# Altium schematic symbol library Schlib1.SchLib: 1 symbol
Pins are listed as number, name and electrical type; pins without a type are passive.

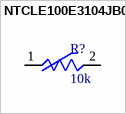
[diagram p0: symbol NTCLE100E3104JB0]

## NTCLE100E3104JB0
designator R?, comment 10k
Thermistor NTC 100K Ohm 5% 2-Pin Radial 4190K -5 to -4.5 Bulk; Manufacturer: Vishay BCcomponents; Manufacturer Part Number: NTCLE100E3104JB0; Resistance: 100kR; Max Power Dissipation: 500mW; Accuracy: 1.5%; Lead Diameter: 0.6mm; Lead Length: 17mm; Supplier 1: Mouser; RoHS: Yes; Category: Thermistors; Stock 1: 20929; Pricing 1: 1=0,89000, 10=0,73400, 50=0,73400, 100=0,45600, 1000=0,34600, 10000=0,28400 (USD); Mount: Through Hole; Case/Package: Radial; Number of Pins: 2; Min Operating Temperature: -40°C; Max Operating Temperature: 125°C; Tolerance: 5%; Packaging: Bulk; Package Quantity: 500; Termination: Radial; Series: 2322; Resistance Tolerance: 5%; Length: 3.3mm; Height: 9mm; Depth: 3mm; Lead Pitch: 2.54mm; Radiation Hardening: No; RoHS Compliant: Yes; Lead Free: Lead Free; ComponentLink1URL: https://datasheet.ciiva.com/15097/getdatasheetpartid-129697-15097699.pdf?src-supplier=Verical; ComponentLink1Description: https://datasheet.ciiva.com/15097/getdatasheetpartid-129697-15097699.pdf?src-supplier=Verical; ComponentLink2URL: https://datasheet.ciiva.com/7659/1784420-7659488.pdf?src-supplier=Element14; ComponentLink2Description: https://datasheet.ciiva.com/7659/1784420-7659488.pdf?src-supplier=Element14; ComponentLink3URL: https://datasheet.ciiva.com/2851/ntcle100-2851268.pdf?src-supplier=Digi-Key; ComponentLink3Description: https://datasheet.ciiva.com/2851/ntcle100-2851268.pdf?src-supplier=Digi-Key; ComponentLink4URL: https://datasheet.ciiva.com/2848/ntcle100-2848931.pdf?src-supplier=Digi-Key; ComponentLink4Description: https://datasheet.ciiva.com/2848/ntcle100-2848931.pdf?src-supplier=Digi-Key; ComponentLink5URL: https://datasheet.ciiva.com/3280/ntcle100-3280361.pdf?src-supplier=Avnet; ComponentLink5Description: https://datasheet.ciiva.com/3280/ntcle100-3280361.pdf?src-supplier=Avnet; ComponentLink6URL: https://datasheet.ciiva.com/2851/ntcle100-2851261.pdf?src-supplier=Digi-Key; ComponentLink6Description: https://datasheet.ciiva.com/2851/ntcle100-2851261.pdf?src-supplier=Digi-Key; Supplier Part Number 1: 594-2381-640-63104
pins: 1, 2